# Altium footprint library OSTTE040104.PcbLib: 1 footprints
Each footprint in its own frame and in the unit in brackets; x right, y up, seen from the top. Pads: shape width x height; smd on the part's side, far side on the other; paste and mask are expansions set on the pad; w line width, h text height; cw(c..) or ccw(c..) is an arc to the next point about the centre after c.
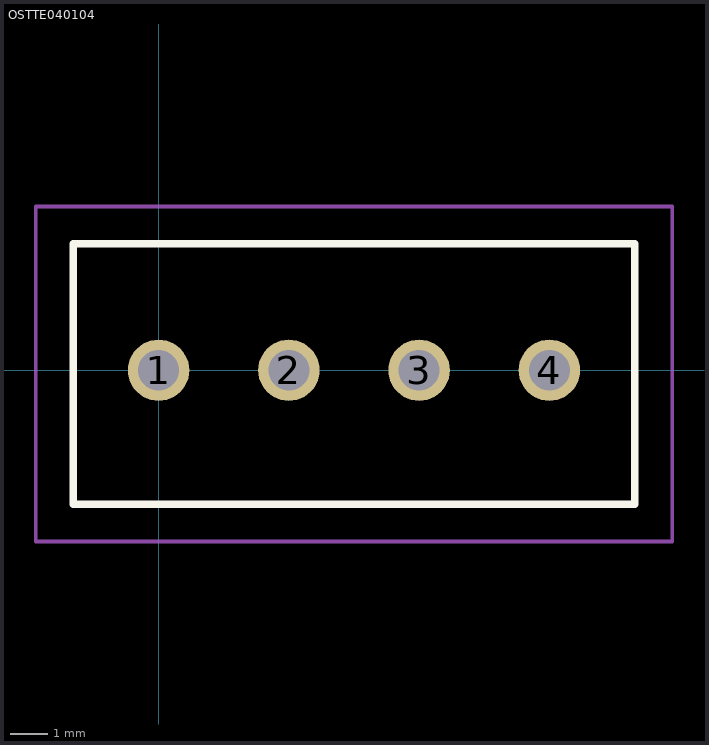
[diagram p0: the footprint, top view; thin cyan lines are the x and y axes]

## OSTTE040104 [mm]
pads (4):
  round 1.65 hole 1.1: 1(0,0) 2(3.5,0) 3(7,0) 4(10.5,0)
Top Overlay:
  lines w0.2: -2.3,-3.6 12.8,-3.6 12.8,3.4 -2.3,3.4 -2.3,-3.6
Mechanical 15:
  lines w0.1: -2.3,-3.6 12.8,-3.6 12.8,3.4 -2.3,3.4 -2.3,-3.6
Mechanical 20:
  lines w0.1: -3.3,-4.6 13.8,-4.6 13.8,4.4 -3.3,4.4 -3.3,-4.6